# Altium integrated library WE_WR-WTB_Wire-to-Board Connectors_1.25 mm_rev15a.IntLib: 46 symbols
Pins are listed as number, name and electrical type; pins without a type are passive.

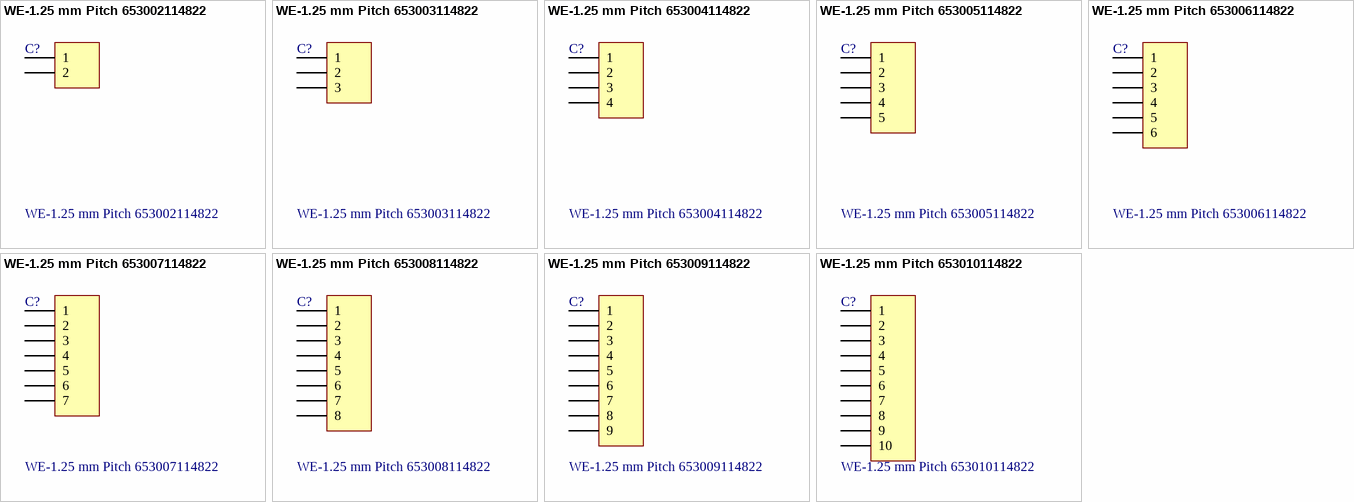
[diagram p0: symbols WE-1.25 mm Pitch 653002114822 to WE-1.25 mm Pitch 653010114822]

## WE-1.25 mm Pitch 653002114822
designator C?
WR-WTB 1.25mm; Manufacturer: Würth Elektronik eiSos GmbH; ComponentLink1 Description: Manufacturer; ComponentLink2 Description: Datasheet; NoPins: 2; Created Date: 17 June 2013; partNo: 653002114822; ComponentLink1URL: http://www.we-online.com; ComponentLink2URL: http://katalog.we-online.de/em/datasheet/6530xx114822.pdf; Created by: Karrer Zheng
footprint 653002114822 (Male Shrouded Header - 02p 1 row)
pins: 1, 2

## WE-1.25 mm Pitch 653003114822
designator C?
WR-WTB 1.25mm; Manufacturer: Würth Elektronik eiSos GmbH; ComponentLink1 Description: Manufacturer; ComponentLink2 Description: Datasheet; NoPins: 3; Created Date: 17 June 2013; partNo: 653003114822; ComponentLink1URL: http://www.we-online.com; ComponentLink2URL: http://katalog.we-online.de/em/datasheet/6530xx114822.pdf; Created by: Karrer Zheng
footprint 653003114822 (Male Shrouded Header - 03p 1 row)
pins: 1, 2, 3

## WE-1.25 mm Pitch 653004114822
designator C?
WR-WTB 1.25mm; Manufacturer: Würth Elektronik eiSos GmbH; ComponentLink1 Description: Manufacturer; ComponentLink2 Description: Datasheet; NoPins: 4; Created Date: 17 June 2013; partNo: 653004114822; ComponentLink1URL: http://www.we-online.com; ComponentLink2URL: http://katalog.we-online.de/em/datasheet/6530xx114822.pdf; Created by: Karrer Zheng
footprint 653004114822 (Male Shrouded Header - 04p 1 row)
pins: 1, 2, 3, 4

## WE-1.25 mm Pitch 653005114822
designator C?
WR-WTB 1.25mm; Manufacturer: Würth Elektronik eiSos GmbH; ComponentLink1 Description: Manufacturer; ComponentLink2 Description: Datasheet; NoPins: 5; Created Date: 17 June 2013; partNo: 653005114822; ComponentLink1URL: http://www.we-online.com; ComponentLink2URL: http://katalog.we-online.de/em/datasheet/6530xx114822.pdf; Created by: Karrer Zheng
footprint 653005114822 (Male Shrouded Header - 05p 1 row)
pins: 1, 2, 3, 4, 5

## WE-1.25 mm Pitch 653006114822
designator C?
WR-WTB 1.25mm; Manufacturer: Würth Elektronik eiSos GmbH; ComponentLink1 Description: Manufacturer; ComponentLink2 Description: Datasheet; NoPins: 6; Created Date: 17 June 2013; partNo: 653006114822; ComponentLink1URL: http://www.we-online.com; ComponentLink2URL: http://katalog.we-online.de/em/datasheet/6530xx114822.pdf; Created by: Karrer Zheng
footprint 653006114822 (Male Shrouded Header - 06p 1 row)
pins: 1, 2, 3, 4, 5, 6

## WE-1.25 mm Pitch 653007114822
designator C?
WR-WTB 1.25mm; Manufacturer: Würth Elektronik eiSos GmbH; ComponentLink1 Description: Manufacturer; ComponentLink2 Description: Datasheet; NoPins: 7; Created Date: 17 June 2013; partNo: 653007114822; ComponentLink1URL: http://www.we-online.com; ComponentLink2URL: http://katalog.we-online.de/em/datasheet/6530xx114822.pdf; Created by: Karrer Zheng
footprint 653007114822 (Male Shrouded Header - 07p 1 row)
pins: 1, 2, 3, 4, 5, 6, 7

## WE-1.25 mm Pitch 653008114822
designator C?
WR-WTB 1.25mm; Manufacturer: Würth Elektronik eiSos GmbH; ComponentLink1 Description: Manufacturer; ComponentLink2 Description: Datasheet; NoPins: 8; Created Date: 17 June 2013; partNo: 653008114822; ComponentLink1URL: http://www.we-online.com; ComponentLink2URL: http://katalog.we-online.de/em/datasheet/6530xx114822.pdf; Created by: Karrer Zheng
footprint 653008114822 (Male Shrouded Header - 08p 1 row)
pins: 1, 2, 3, 4, 5, 6, 7, 8

## WE-1.25 mm Pitch 653009114822
designator C?
WR-WTB 1.25mm; Manufacturer: Würth Elektronik eiSos GmbH; ComponentLink1 Description: Manufacturer; ComponentLink2 Description: Datasheet; NoPins: 9; Created Date: 17 June 2013; partNo: 653009114822; ComponentLink1URL: http://www.we-online.com; ComponentLink2URL: http://katalog.we-online.de/em/datasheet/6530xx114822.pdf; Created by: Karrer Zheng
footprint 653009114822 (Male Shrouded Header - 09p 1 row)
pins: 1, 2, 3, 4, 5, 6, 7, 8, 9

## WE-1.25 mm Pitch 653010114822
designator C?
WR-WTB 1.25mm; Manufacturer: Würth Elektronik eiSos GmbH; ComponentLink1 Description: Manufacturer; ComponentLink2 Description: Datasheet; NoPins: 10; Created Date: 17 June 2013; partNo: 653010114822; ComponentLink1URL: http://www.we-online.com; ComponentLink2URL: http://katalog.we-online.de/em/datasheet/6530xx114822.pdf; Created by: Karrer Zheng
footprint 653010114822 (Male Shrouded Header - 10p 1 row)
pins: 1, 2, 3, 4, 5, 6, 7, 8, 9, 10


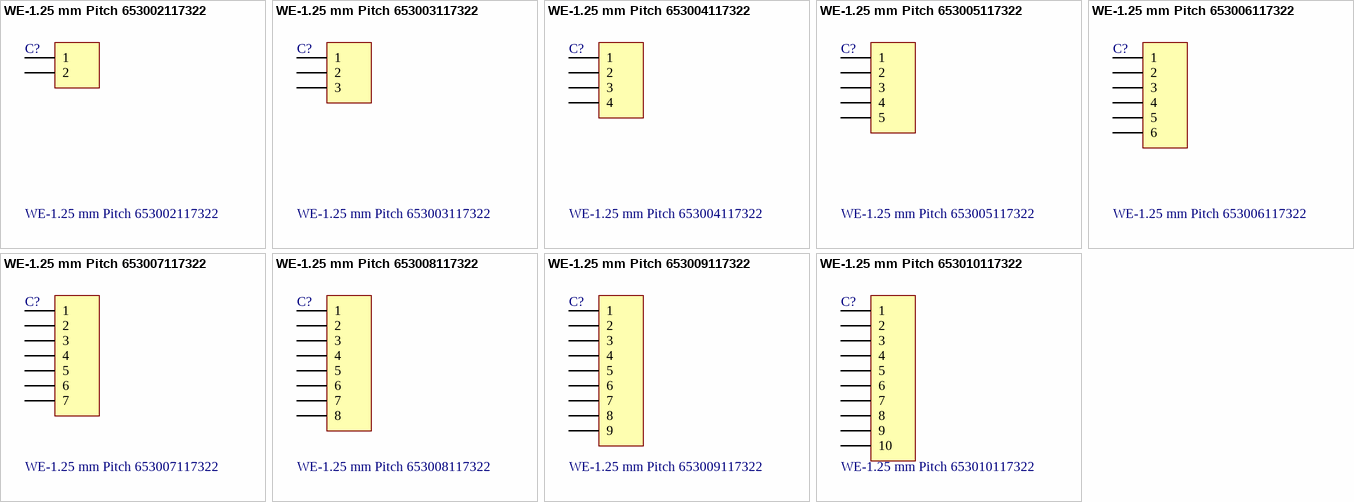
[diagram p1: symbols WE-1.25 mm Pitch 653002117322 to WE-1.25 mm Pitch 653010117322]

## WE-1.25 mm Pitch 653002117322
designator C?
WR-WTB 1.25mm; Manufacturer: Würth Elektronik eiSos GmbH; ComponentLink1 Description: Manufacturer; ComponentLink2 Description: Datasheet; NoPins: 2; Created Date: 18 June 2013; partNo: 653002117322; ComponentLink1URL: http://www.we-online.com; ComponentLink2URL: http://katalog.we-online.de/em/datasheet/6530xx117322.pdf; Created by: Karrer Zheng
footprint 653002117322 (Male Horizontal Shrouded Header - 02p 1 row)
pins: 1, 2

## WE-1.25 mm Pitch 653003117322
designator C?
WR-WTB 1.25mm; Manufacturer: Würth Elektronik eiSos GmbH; ComponentLink1 Description: Manufacturer; ComponentLink2 Description: Datasheet; NoPins: 3; Created Date: 18 June 2013; partNo: 653003117322; ComponentLink1URL: http://www.we-online.com; ComponentLink2URL: http://katalog.we-online.de/em/datasheet/6530xx117322.pdf; Created by: Karrer Zheng
footprint 653003117322 (Male Horizontal Shrouded Header - 03p 1 row)
pins: 1, 2, 3

## WE-1.25 mm Pitch 653004117322
designator C?
WR-WTB 1.25mm; Manufacturer: Würth Elektronik eiSos GmbH; ComponentLink1 Description: Manufacturer; ComponentLink2 Description: Datasheet; NoPins: 4; Created Date: 18 June 2013; partNo: 653004117322; ComponentLink1URL: http://www.we-online.com; ComponentLink2URL: http://katalog.we-online.de/em/datasheet/6530xx117322.pdf; Created by: Karrer Zheng
footprint 653004117322 (Male Horizontal Shrouded Header - 04p 1 row)
pins: 1, 2, 3, 4

## WE-1.25 mm Pitch 653005117322
designator C?
WR-WTB 1.25mm; Manufacturer: Würth Elektronik eiSos GmbH; ComponentLink1 Description: Manufacturer; ComponentLink2 Description: Datasheet; NoPins: 5; Created Date: 18 June 2013; partNo: 653005117322; ComponentLink1URL: http://www.we-online.com; ComponentLink2URL: http://katalog.we-online.de/em/datasheet/6530xx117322.pdf; Created by: Karrer Zheng
footprint 653005117322 (Male Horizontal Shrouded Header - 05p 1 row)
pins: 1, 2, 3, 4, 5

## WE-1.25 mm Pitch 653006117322
designator C?
WR-WTB 1.25mm; Manufacturer: Würth Elektronik eiSos GmbH; ComponentLink1 Description: Manufacturer; ComponentLink2 Description: Datasheet; NoPins: 6; Created Date: 18 June 2013; partNo: 653006117322; ComponentLink1URL: http://www.we-online.com; ComponentLink2URL: http://katalog.we-online.de/em/datasheet/6530xx117322.pdf; Created by: Karrer Zheng
footprint 653006117322 (Male Horizontal Shrouded Header - 06p 1 row)
pins: 1, 2, 3, 4, 5, 6

## WE-1.25 mm Pitch 653007117322
designator C?
WR-WTB 1.25mm; Manufacturer: Würth Elektronik eiSos GmbH; ComponentLink1 Description: Manufacturer; ComponentLink2 Description: Datasheet; NoPins: 7; Created Date: 18 June 2013; partNo: 653007117322; ComponentLink1URL: http://www.we-online.com; ComponentLink2URL: http://katalog.we-online.de/em/datasheet/6530xx117322.pdf; Created by: Karrer Zheng
footprint 653007117322 (Male Horizontal Shrouded Header - 07p 1 row)
pins: 1, 2, 3, 4, 5, 6, 7

## WE-1.25 mm Pitch 653008117322
designator C?
WR-WTB 1.25mm; Manufacturer: Würth Elektronik eiSos GmbH; ComponentLink1 Description: Manufacturer; ComponentLink2 Description: Datasheet; NoPins: 8; Created Date: 18 June 2013; partNo: 653008117322; ComponentLink1URL: http://www.we-online.com; ComponentLink2URL: http://katalog.we-online.de/em/datasheet/6530xx117322.pdf; Created by: Karrer Zheng
footprint 653008117322 (Male Horizontal Shrouded Header - 08p 1 row)
pins: 1, 2, 3, 4, 5, 6, 7, 8

## WE-1.25 mm Pitch 653009117322
designator C?
WR-WTB 1.25mm; Manufacturer: Würth Elektronik eiSos GmbH; ComponentLink1 Description: Manufacturer; ComponentLink2 Description: Datasheet; NoPins: 9; Created Date: 18 June 2013; partNo: 653009117322; ComponentLink1URL: http://www.we-online.com; ComponentLink2URL: http://katalog.we-online.de/em/datasheet/6530xx117322.pdf; Created by: Karrer Zheng
footprint 653009117322 (Male Horizontal Shrouded Header - 09p 1 row)
pins: 1, 2, 3, 4, 5, 6, 7, 8, 9

## WE-1.25 mm Pitch 653010117322
designator C?
WR-WTB 1.25mm; Manufacturer: Würth Elektronik eiSos GmbH; ComponentLink1 Description: Manufacturer; ComponentLink2 Description: Datasheet; NoPins: 10; Created Date: 18 June 2013; partNo: 653010117322; ComponentLink1URL: http://www.we-online.com; ComponentLink2URL: http://katalog.we-online.de/em/datasheet/6530xx117322.pdf; Created by: Karrer Zheng
footprint 653010117322 (Male Horizontal Shrouded Header - 10p 1 row)
pins: 1, 2, 3, 4, 5, 6, 7, 8, 9, 10


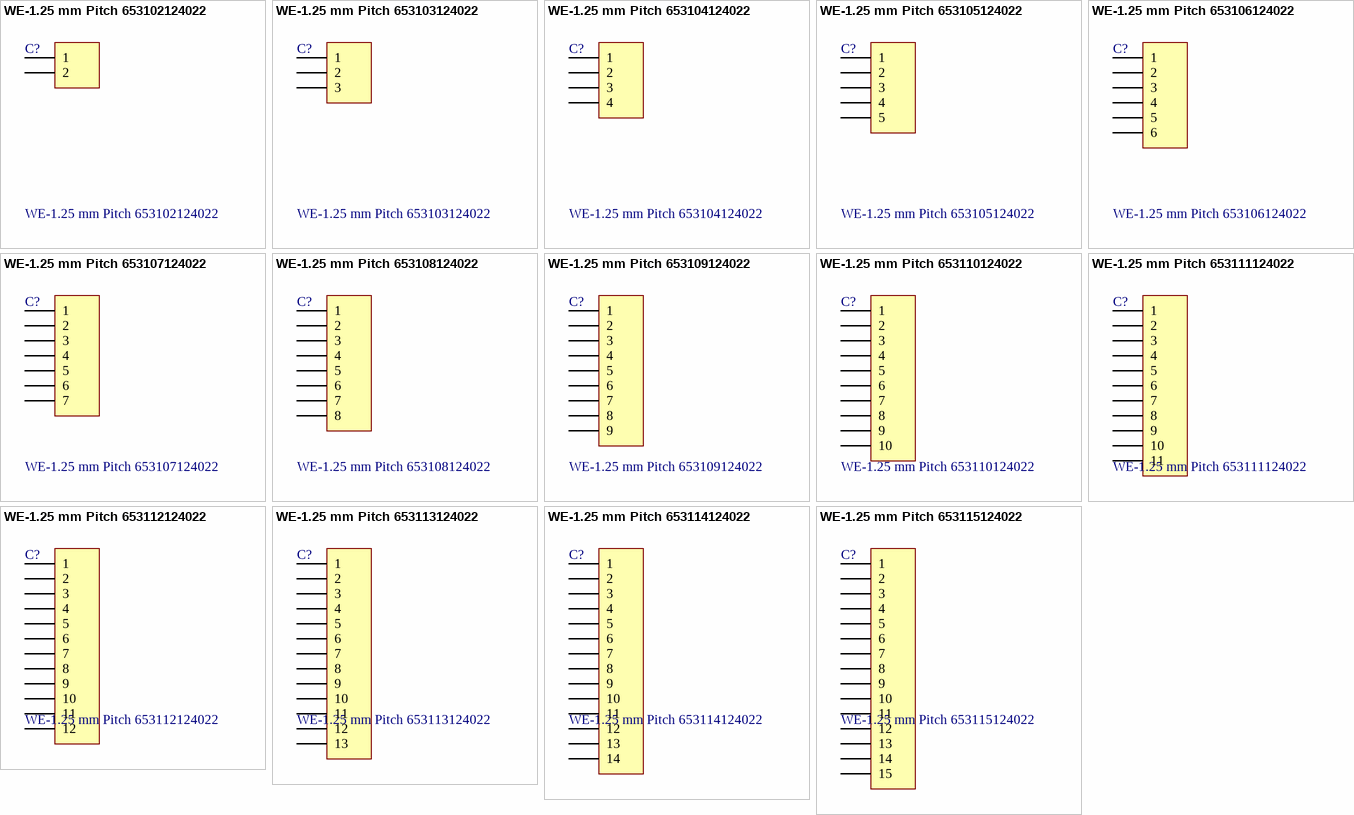
[diagram p2: symbols WE-1.25 mm Pitch 653102124022 to WE-1.25 mm Pitch 653115124022]

## WE-1.25 mm Pitch 653102124022
designator C?
WR-WTB 1.25mm; Manufacturer: Würth Elektronik eiSos GmbH; ComponentLink1 Description: Manufacturer; ComponentLink2 Description: Datasheet; NoPins: 2; Created Date: 18 June 2013; partNo: 653102124022; ComponentLink1URL: http://www.we-online.com; ComponentLink2URL: http://katalog.we-online.de/em/datasheet/6531xx124022.pdf; Created by: Karrer Zheng
footprint 653102124022 (SMT Male Vertical Shrouded Header - 02p 1 row - T & R packaging)
pins: 1, 2

## WE-1.25 mm Pitch 653103124022
designator C?
WR-WTB 1.25mm; Manufacturer: Würth Elektronik eiSos GmbH; ComponentLink1 Description: Manufacturer; ComponentLink2 Description: Datasheet; NoPins: 3; Created Date: 18 June 2013; partNo: 653103124022; ComponentLink1URL: http://www.we-online.com; ComponentLink2URL: http://katalog.we-online.de/em/datasheet/6531xx124022.pdf; Created by: Karrer Zheng
footprint 653103124022 (SMT Male Vertical Shrouded Header - 02p 1 row - T & R packaging)
pins: 1, 2, 3

## WE-1.25 mm Pitch 653104124022
designator C?
WR-WTB 1.25mm; Manufacturer: Würth Elektronik eiSos GmbH; ComponentLink1 Description: Manufacturer; ComponentLink2 Description: Datasheet; NoPins: 4; Created Date: 18 June 2013; partNo: 653104124022; ComponentLink1URL: http://www.we-online.com; ComponentLink2URL: http://katalog.we-online.de/em/datasheet/6531xx124022.pdf; Created by: Karrer Zheng
footprint 653104124022 (SMT Male Vertical Shrouded Header - 02p 1 row - T & R packaging)
pins: 1, 2, 3, 4

## WE-1.25 mm Pitch 653105124022
designator C?
WR-WTB 1.25mm; Manufacturer: Würth Elektronik eiSos GmbH; ComponentLink1 Description: Manufacturer; ComponentLink2 Description: Datasheet; NoPins: 5; Created Date: 18 June 2013; partNo: 653105124022; ComponentLink1URL: http://www.we-online.com; ComponentLink2URL: http://katalog.we-online.de/em/datasheet/6531xx124022.pdf; Created by: Karrer Zheng
footprint 653105124022 (SMT Male Vertical Shrouded Header - 02p 1 row - T & R packaging)
pins: 1, 2, 3, 4, 5

## WE-1.25 mm Pitch 653106124022
designator C?
WR-WTB 1.25mm; Manufacturer: Würth Elektronik eiSos GmbH; ComponentLink1 Description: Manufacturer; ComponentLink2 Description: Datasheet; NoPins: 6; Created Date: 18 June 2013; partNo: 653106124022; ComponentLink1URL: http://www.we-online.com; ComponentLink2URL: http://katalog.we-online.de/em/datasheet/6531xx124022.pdf; Created by: Karrer Zheng
footprint 653106124022 (SMT Male Vertical Shrouded Header - 02p 1 row - T & R packaging)
pins: 1, 2, 3, 4, 5, 6

## WE-1.25 mm Pitch 653107124022
designator C?
WR-WTB 1.25mm; Manufacturer: Würth Elektronik eiSos GmbH; ComponentLink1 Description: Manufacturer; ComponentLink2 Description: Datasheet; NoPins: 7; Created Date: 18 June 2013; partNo: 653107124022; ComponentLink1URL: http://www.we-online.com; ComponentLink2URL: http://katalog.we-online.de/em/datasheet/6531xx124022.pdf; Created by: Karrer Zheng
footprint 653107124022 (SMT Male Vertical Shrouded Header - 02p 1 row - T & R packaging)
pins: 1, 2, 3, 4, 5, 6, 7

## WE-1.25 mm Pitch 653108124022
designator C?
WR-WTB 1.25mm; Manufacturer: Würth Elektronik eiSos GmbH; ComponentLink1 Description: Manufacturer; ComponentLink2 Description: Datasheet; NoPins: 8; Created Date: 18 June 2013; partNo: 653108124022; ComponentLink1URL: http://www.we-online.com; ComponentLink2URL: http://katalog.we-online.de/em/datasheet/6531xx124022.pdf; Created by: Karrer Zheng
footprint 653108124022 (SMT Male Vertical Shrouded Header - 02p 1 row - T & R packaging)
pins: 1, 2, 3, 4, 5, 6, 7, 8

## WE-1.25 mm Pitch 653109124022
designator C?
WR-WTB 1.25mm; Manufacturer: Würth Elektronik eiSos GmbH; ComponentLink1 Description: Manufacturer; ComponentLink2 Description: Datasheet; NoPins: 9; Created Date: 18 June 2013; partNo: 653109124022; ComponentLink1URL: http://www.we-online.com; ComponentLink2URL: http://katalog.we-online.de/em/datasheet/6531xx124022.pdf; Created by: Karrer Zheng
footprint 653109124022 (SMT Male Vertical Shrouded Header - 02p 1 row - T & R packaging)
pins: 1, 2, 3, 4, 5, 6, 7, 8, 9

## WE-1.25 mm Pitch 653110124022
designator C?
WR-WTB 1.25mm; Manufacturer: Würth Elektronik eiSos GmbH; ComponentLink1 Description: Manufacturer; ComponentLink2 Description: Datasheet; NoPins: 10; Created Date: 18 June 2013; partNo: 653110124022; ComponentLink1URL: http://www.we-online.com; ComponentLink2URL: http://katalog.we-online.de/em/datasheet/6531xx124022.pdf; Created by: Karrer Zheng
footprint 653110124022 (SMT Male Vertical Shrouded Header - 02p 1 row - T & R packaging)
pins: 1, 2, 3, 4, 5, 6, 7, 8, 9, 10

## WE-1.25 mm Pitch 653111124022
designator C?
WR-WTB 1.25mm; Manufacturer: Würth Elektronik eiSos GmbH; ComponentLink1 Description: Manufacturer; ComponentLink2 Description: Datasheet; NoPins: 11; Created Date: 18 June 2013; partNo: 653111124022; ComponentLink1URL: http://www.we-online.com; ComponentLink2URL: http://katalog.we-online.de/em/datasheet/6531xx124022.pdf; Created by: Karrer Zheng
footprint 653111124022 (SMT Male Vertical Shrouded Header - 02p 1 row - T & R packaging)
pins: 1, 2, 3, 4, 5, 6, 7, 8, 9, 10, 11

## WE-1.25 mm Pitch 653112124022
designator C?
WR-WTB 1.25mm; Manufacturer: Würth Elektronik eiSos GmbH; ComponentLink1 Description: Manufacturer; ComponentLink2 Description: Datasheet; NoPins: 12; Created Date: 18 June 2013; partNo: 653112124022; ComponentLink1URL: http://www.we-online.com; ComponentLink2URL: http://katalog.we-online.de/em/datasheet/6531xx124022.pdf; Created by: Karrer Zheng
footprint 653112124022 (SMT Male Vertical Shrouded Header - 02p 1 row - T & R packaging)
pins: 1, 2, 3, 4, 5, 6, 7, 8, 9, 10, 11, 12

## WE-1.25 mm Pitch 653113124022
designator C?
WR-WTB 1.25mm; Manufacturer: Würth Elektronik eiSos GmbH; ComponentLink1 Description: Manufacturer; ComponentLink2 Description: Datasheet; NoPins: 13; Created Date: 18 June 2013; partNo: 653113124022; ComponentLink1URL: http://www.we-online.com; ComponentLink2URL: http://katalog.we-online.de/em/datasheet/6531xx124022.pdf; Created by: Karrer Zheng
footprint 653113124022 (SMT Male Vertical Shrouded Header - 02p 1 row - T & R packaging)
pins: 1, 2, 3, 4, 5, 6, 7, 8, 9, 10, 11, 12, 13

## WE-1.25 mm Pitch 653114124022
designator C?
WR-WTB 1.25mm; Manufacturer: Würth Elektronik eiSos GmbH; ComponentLink1 Description: Manufacturer; ComponentLink2 Description: Datasheet; NoPins: 14; Created Date: 18 June 2013; partNo: 653114124022; ComponentLink1URL: http://www.we-online.com; ComponentLink2URL: http://katalog.we-online.de/em/datasheet/6531xx124022.pdf; Created by: Karrer Zheng
footprint 653114124022 (SMT Male Vertical Shrouded Header - 02p 1 row - T & R packaging)
pins: 1, 2, 3, 4, 5, 6, 7, 8, 9, 10, 11, 12, 13, 14

## WE-1.25 mm Pitch 653115124022
designator C?
WR-WTB 1.25mm; Manufacturer: Würth Elektronik eiSos GmbH; ComponentLink1 Description: Manufacturer; ComponentLink2 Description: Datasheet; NoPins: 15; Created Date: 18 June 2013; partNo: 653115124022; ComponentLink1URL: http://www.we-online.com; ComponentLink2URL: http://katalog.we-online.de/em/datasheet/6531xx124022.pdf; Created by: Karrer Zheng
footprint 653115124022 (SMT Male Vertical Shrouded Header - 02p 1 row - T & R packaging)
pins: 1, 2, 3, 4, 5, 6, 7, 8, 9, 10, 11, 12, 13, 14, 15


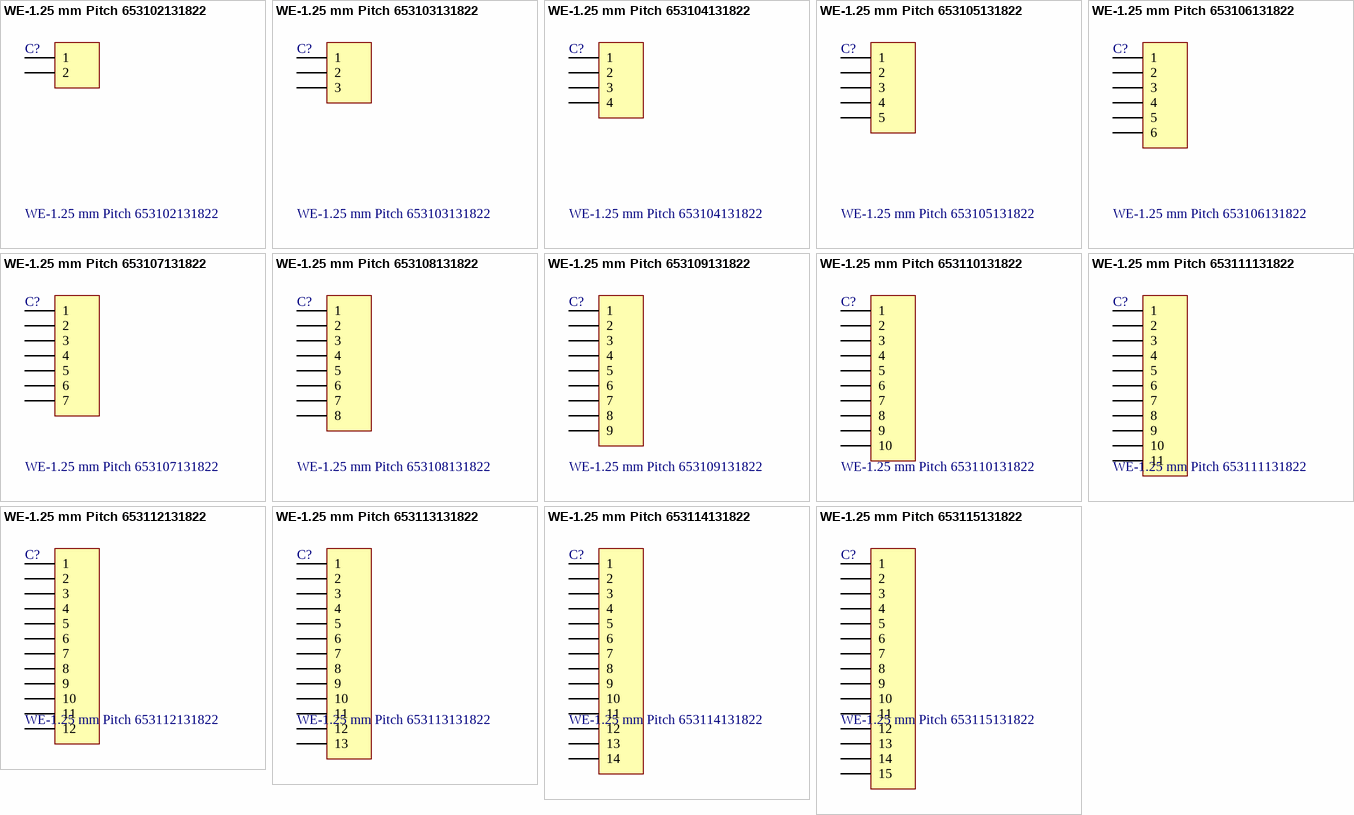
[diagram p3: symbols WE-1.25 mm Pitch 653102131822 to WE-1.25 mm Pitch 653115131822]

## WE-1.25 mm Pitch 653102131822
designator C?
WR-WTB 1.25mm; Manufacturer: Würth Elektronik eiSos GmbH; ComponentLink1 Description: Manufacturer; ComponentLink2 Description: Datasheet; NoPins: 2; Created Date: 19 June 2013; partNo: 653102131822; ComponentLink1URL: http://www.we-online.com; ComponentLink2URL: http://katalog.we-online.de/em/datasheet/6531xx131822.pdf; Created by: Karrer Zheng
footprint 653102131822 (SMT Male Horizontal Shrouded Header - 02p 1 row - T & R packaging)
pins: 1, 2

## WE-1.25 mm Pitch 653103131822
designator C?
WR-WTB 1.25mm; Manufacturer: Würth Elektronik eiSos GmbH; ComponentLink1 Description: Manufacturer; ComponentLink2 Description: Datasheet; NoPins: 3; Created Date: 19 June 2013; partNo: 653103131822; ComponentLink1URL: http://www.we-online.com; ComponentLink2URL: http://katalog.we-online.de/em/datasheet/6531xx131822.pdf; Created by: Karrer Zheng
footprint 653103131822 (SMT Male Horizontal Shrouded Header - 03p 1 row - T & R packaging)
pins: 1, 2, 3

## WE-1.25 mm Pitch 653104131822
designator C?
WR-WTB 1.25mm; Manufacturer: Würth Elektronik eiSos GmbH; ComponentLink1 Description: Manufacturer; ComponentLink2 Description: Datasheet; NoPins: 4; Created Date: 19 June 2013; partNo: 653104131822; ComponentLink1URL: http://www.we-online.com; ComponentLink2URL: http://katalog.we-online.de/em/datasheet/6531xx131822.pdf; Created by: Karrer Zheng
footprint 653104131822 (SMT Male Horizontal Shrouded Header - 04p 1 row - T & R packaging)
pins: 1, 2, 3, 4

## WE-1.25 mm Pitch 653105131822
designator C?
WR-WTB 1.25mm; Manufacturer: Würth Elektronik eiSos GmbH; ComponentLink1 Description: Manufacturer; ComponentLink2 Description: Datasheet; NoPins: 5; Created Date: 19 June 2013; partNo: 653105131822; ComponentLink1URL: http://www.we-online.com; ComponentLink2URL: http://katalog.we-online.de/em/datasheet/6531xx131822.pdf; Created by: Karrer Zheng
footprint 653105131822 (SMT Male Horizontal Shrouded Header - 05p 1 row - T & R packaging)
pins: 1, 2, 3, 4, 5

## WE-1.25 mm Pitch 653106131822
designator C?
WR-WTB 1.25mm; Manufacturer: Würth Elektronik eiSos GmbH; ComponentLink1 Description: Manufacturer; ComponentLink2 Description: Datasheet; NoPins: 6; Created Date: 19 June 2013; partNo: 653106131822; ComponentLink1URL: http://www.we-online.com; ComponentLink2URL: http://katalog.we-online.de/em/datasheet/6531xx131822.pdf; Created by: Karrer Zheng
footprint 653106131822 (SMT Male Horizontal Shrouded Header - 06p 1 row - T & R packaging)
pins: 1, 2, 3, 4, 5, 6

## WE-1.25 mm Pitch 653107131822
designator C?
WR-WTB 1.25mm; Manufacturer: Würth Elektronik eiSos GmbH; ComponentLink1 Description: Manufacturer; ComponentLink2 Description: Datasheet; NoPins: 7; Created Date: 19 June 2013; partNo: 653107131822; ComponentLink1URL: http://www.we-online.com; ComponentLink2URL: http://katalog.we-online.de/em/datasheet/6531xx131822.pdf; Created by: Karrer Zheng
footprint 653107131822 (SMT Male Horizontal Shrouded Header - 07p 1 row - T & R packaging)
pins: 1, 2, 3, 4, 5, 6, 7

## WE-1.25 mm Pitch 653108131822
designator C?
WR-WTB 1.25mm; Manufacturer: Würth Elektronik eiSos GmbH; ComponentLink1 Description: Manufacturer; ComponentLink2 Description: Datasheet; NoPins: 8; Created Date: 19 June 2013; partNo: 653108131822; ComponentLink1URL: http://www.we-online.com; ComponentLink2URL: http://katalog.we-online.de/em/datasheet/6531xx131822.pdf; Created by: Karrer Zheng
footprint 653108131822 (SMT Male Horizontal Shrouded Header - 08p 1 row - T & R packaging)
pins: 1, 2, 3, 4, 5, 6, 7, 8

## WE-1.25 mm Pitch 653109131822
designator C?
WR-WTB 1.25mm; Manufacturer: Würth Elektronik eiSos GmbH; ComponentLink1 Description: Manufacturer; ComponentLink2 Description: Datasheet; NoPins: 9; Created Date: 19 June 2013; partNo: 653109131822; ComponentLink1URL: http://www.we-online.com; ComponentLink2URL: http://katalog.we-online.de/em/datasheet/6531xx131822.pdf; Created by: Karrer Zheng
footprint 653109131822 (SMT Male Horizontal Shrouded Header - 09p 1 row - T & R packaging)
pins: 1, 2, 3, 4, 5, 6, 7, 8, 9

## WE-1.25 mm Pitch 653110131822
designator C?
WR-WTB 1.25mm; Manufacturer: Würth Elektronik eiSos GmbH; ComponentLink1 Description: Manufacturer; ComponentLink2 Description: Datasheet; NoPins: 10; Created Date: 19 June 2013; partNo: 653110131822; ComponentLink1URL: http://www.we-online.com; ComponentLink2URL: http://katalog.we-online.de/em/datasheet/6531xx131822.pdf; Created by: Karrer Zheng
footprint 653110131822 (SMT Male Horizontal Shrouded Header - 10p 1 row - T & R packaging)
pins: 1, 2, 3, 4, 5, 6, 7, 8, 9, 10

## WE-1.25 mm Pitch 653111131822
designator C?
WR-WTB 1.25mm; Manufacturer: Würth Elektronik eiSos GmbH; ComponentLink1 Description: Manufacturer; ComponentLink2 Description: Datasheet; NoPins: 11; Created Date: 19 June 2013; partNo: 653111131822; ComponentLink1URL: http://www.we-online.com; ComponentLink2URL: http://katalog.we-online.de/em/datasheet/6531xx131822.pdf; Created by: Karrer Zheng
footprint 653111131822 (SMT Male Horizontal Shrouded Header - 11p 1 row - T & R packaging)
pins: 1, 2, 3, 4, 5, 6, 7, 8, 9, 10, 11

## WE-1.25 mm Pitch 653112131822
designator C?
WR-WTB 1.25mm; Manufacturer: Würth Elektronik eiSos GmbH; ComponentLink1 Description: Manufacturer; ComponentLink2 Description: Datasheet; NoPins: 12; Created Date: 19 June 2013; partNo: 653112131822; ComponentLink1URL: http://www.we-online.com; ComponentLink2URL: http://katalog.we-online.de/em/datasheet/6531xx131822.pdf; Created by: Karrer Zheng
footprint 653112131822 (SMT Male Horizontal Shrouded Header - 12p 1 row - T & R packaging)
pins: 1, 2, 3, 4, 5, 6, 7, 8, 9, 10, 11, 12

## WE-1.25 mm Pitch 653113131822
designator C?
WR-WTB 1.25mm; Manufacturer: Würth Elektronik eiSos GmbH; ComponentLink1 Description: Manufacturer; ComponentLink2 Description: Datasheet; NoPins: 13; Created Date: 19 June 2013; partNo: 653113131822; ComponentLink1URL: http://www.we-online.com; ComponentLink2URL: http://katalog.we-online.de/em/datasheet/6531xx131822.pdf; Created by: Karrer Zheng
footprint 653113131822 (SMT Male Horizontal Shrouded Header - 13p 1 row - T & R packaging)
pins: 1, 2, 3, 4, 5, 6, 7, 8, 9, 10, 11, 12, 13

## WE-1.25 mm Pitch 653114131822
designator C?
WR-WTB 1.25mm; Manufacturer: Würth Elektronik eiSos GmbH; ComponentLink1 Description: Manufacturer; ComponentLink2 Description: Datasheet; NoPins: 14; Created Date: 19 June 2013; partNo: 653114131822; ComponentLink1URL: http://www.we-online.com; ComponentLink2URL: http://katalog.we-online.de/em/datasheet/6531xx131822.pdf; Created by: Karrer Zheng
footprint 653114131822 (SMT Male Horizontal Shrouded Header - 14p 1 row - T & R packaging)
pins: 1, 2, 3, 4, 5, 6, 7, 8, 9, 10, 11, 12, 13, 14

## WE-1.25 mm Pitch 653115131822
designator C?
WR-WTB 1.25mm; Manufacturer: Würth Elektronik eiSos GmbH; ComponentLink1 Description: Manufacturer; ComponentLink2 Description: Datasheet; NoPins: 15; Created Date: 19 June 2013; partNo: 653115131822; ComponentLink1URL: http://www.we-online.com; ComponentLink2URL: http://katalog.we-online.de/em/datasheet/6531xx131822.pdf; Created by: Karrer Zheng
footprint 653115131822 (SMT Male Horizontal Shrouded Header - 15p 1 row - T & R packaging)
pins: 1, 2, 3, 4, 5, 6, 7, 8, 9, 10, 11, 12, 13, 14, 15